# EAGLE library part BNO055 (library BNO055 short)
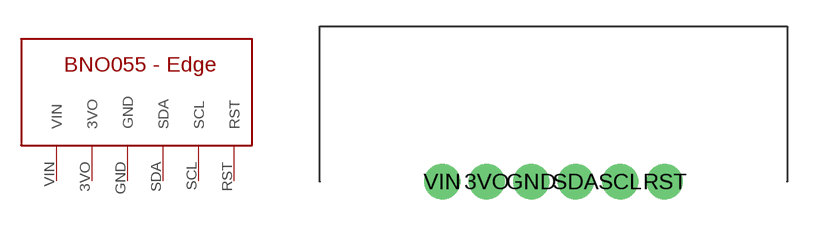
[diagram p0: symbol with the pads of BNO055; footprint BNO055]

Designator prefix -

## BNO055  [BNO055]
3VO  3VO
GND  GND
RST  RST
SCL  SCL
SDA  SDA
VIN  VIN

## Footprint BNO055 (pad centres in mm)
drill 1.016 pad 2.032: 3VO 9.525,1.27; GND 12.065,1.27; RST 19.685,1.27; SCL 17.145,1.27; SDA 14.605,1.27; VIN 6.985,1.27